# Altium integrated library CCM4201S_MAIN_Board_V1-PIJIAKUN_20260819.IntLib: 32 symbols
Pins are listed as number, name and electrical type; pins without a type are passive.

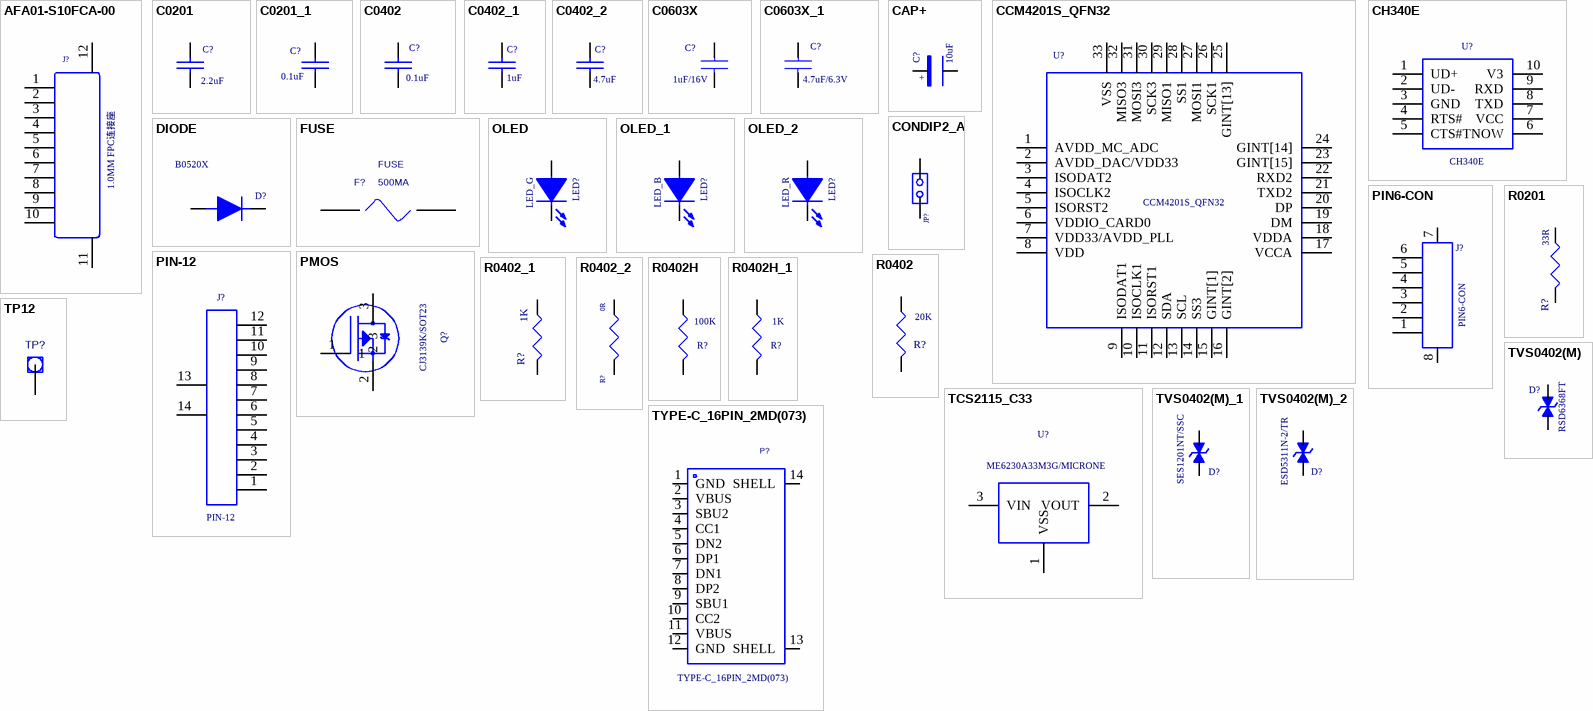
[diagram p0: symbols AFA01-S10FCA-00 to TYPE-C_16PIN_2MD(073)]

## AFA01-S10FCA-00
designator J?  Contributor: 1.0MM FPC连接座  (hidden comment: AFA01-S10FCA-00)
BOM_Manufacturer: JUSHUO; PCB DECAL: FPC-SMD_10P-P1.0_FGS-XJ-H2.0; BOM_Supplier: LCSC; BOM_Supplier_Part: C262756; BOM_Manufacturer_Part: AFA01-S10FCA-00; BOM_JLCPCB_Part_Class: Extended Part; spicePre: F; spiceSymbolName: AFA01-S10FCA-00
footprint FPC-SMD_10P-P1.0_FGS-XJ-H2.0
pins: 1, 2, 3, 4, 5, 6, 7, 8, 9, 10, 11, 12

## C0201
designator C?, comment 2.2uF
CAP, 2.2uF, 10%, 10V, X5R, 0201; Manufacturer #1: 村田 muRata; PCB DECAL: 0402C
footprint 0402C
pins: 1, 2

## C0201_1
designator C?, comment 0.1uF
CAP, 0.1uF, 10%, 10V, X5R, 0201; Manufacturer #1: 村田 muRata; PCB DECAL: 0402C; Source_Path: D:\王君资料\客户资料\奥美佳\TDC5502\SCHEMATIC\改过原理图\TDC5502 1210B56101MN32SSD32FTD020EARIGBT.DSN
footprint 0402C
pins: 1, 2

## C0402
designator C?, comment 0.1uF
CAP, 0.1uF, 10%, 10V, X5R, 0402; Manufacturer #1: 村田 muRata; PCB DECAL: 0402C
footprint 0402C
pins: 1, 2

## C0402_1
designator C?, comment 1uF
CAP, 1UF, 10%, 10V, X5R, 0402; Manufacturer #1: 村田 muRata; PCB DECAL: 0402C
footprint 0402C
pins: 1, 2

## C0402_2
designator C?, comment 4.7uF
CAP, 1UF, 10%, 10V, X5R, 0402; Manufacturer #1: 村田 muRata; PCB DECAL: 0402C
footprint 0402C
pins: 1, 2

## C0603X
designator C?, comment 1uF/16V
CAP, 10UF, 20%, 10V, X5R, 0603; Manufacturer #1: 村田 muRata; Manufacturer: muRata (村田); PCB DECAL: 0402C; PCB_DECAL: C0805; Process: SMT; Geometry.Height: 1.45000mm
footprint 0402C
pins: 1, 2

## C0603X_1
designator C?, comment 4.7uF/6.3V
CAP, 10UF, 20%, 10V, X5R, 0603; Manufacturer #1: 村田 muRata; Manufacturer: muRata (村田); PCB DECAL: 0402C; PCB_DECAL: C0805; Process: SMT; Geometry.Height: 1.45000mm
footprint 0402C
pins: 1, 2

## CAP+
designator C?, comment 10uF
CAP, 10uF, 10%, 16V  6.3*5.3mm SMD; PCB DECAL: L0805; Geometry.Height: 1.19990mm
footprint L0805
pins: 1, 2
text: +

## CCM4201S_QFN32
designator U?
PCB DECAL: QFN32_4X4_0.4
footprint QFN32_4X4_0.4
pins: 1 AVDD_MC_ADC, 2 AVDD_DAC/VDD33, 3 ISODAT2, 4 ISOCLK2, 5 ISORST2, 6 VDDIO_CARD0, 7 VDD33/AVDD_PLL, 8 VDD, 9 ISODAT1, 10 ISOCLK1, 11 ISORST1, 12 SDA, 13 SCL, 14 SS3, 15 GINT[1], 16 GINT[2], 17 VCCA, 18 VDDA, 19 DM, 20 DP, 21 TXD2, 22 RXD2, 23 GINT[15], 24 GINT[14], 25 GINT[13], 26 SCK1, 27 MOSI1, 28 SS1, 29 MISO1, 30 SCK3, 31 MOSI3, 32 MISO3, 33 VSS

## CH340E
designator U?
PCB DECAL: MSOP-10; Geometry.Height: 1.09mm
footprint MSOP-10
pins: 1 UD+, 2 UD-, 3 GND, 4 RTS#, 5 CTS#, 6 TNOW, 7 VCC, 8 TXD, 9 RXD, 10 V3

## CONDIP2_A
designator JP?  (value not drawn)
Rechargeable Battery; PCB DECAL: PAIZHEN-1.27-2P; Value: 4.2V/0.5A
footprint PAIZHEN-1.27-2P
pins: 1, 2

## DIODE
designator D?, comment B0520X
Value: B0520; PCB DECAL: SOD523
footprint SOD523
pins: A, K

## FUSE
designator F?  value 500MA
Source_Path: C:\PROGRAM FILES\CADENCE\SPB_15.7\TOOLS\CAPTURE\LIBRARY\OLDLIBS\DEVICE.OLB; PCB DECAL: 0603-PUSE
footprint 0603-PUSE
pins: 1, 2

## OLED
designator LED?, comment LED_G
Geometry.Height: 1.100mm; PCB DECAL: LED_G
footprint LED_G
pins: 1, 2

## OLED_1
designator LED?, comment LED_B
PCB DECAL: LED_G; Geometry.Height: 1.100mm
footprint LED_G
pins: 1, 2

## OLED_2
designator LED?, comment LED_R
PCB DECAL: LED_G; Geometry.Height: 1.100mm
footprint LED_G
pins: 1, 2

## PIN6-CON
designator J?
PCB DECAL: XH6PIN_1.0MM
footprint XH6PIN_1.0MM
pins: 1, 2, 3, 4, 5, 6, 7, 8

## PIN-12
designator J?
PCB DECAL: PIN-12
footprint PIN-12
pins: 1, 2, 3, 4, 5, 6, 7, 8, 9, 10, 11, 12, 13, 14

## PMOS
designator Q?, comment CJ3139K/SOT23
SOT23; Manufacturer #1: 长电科技; PCB DECAL: SOT23
footprint SOT23
pins: 1, 2, 3

## R0201
designator R?, comment 33R
PCB DECAL: 0402R; Source_Path: C:\PROGRAM FILES\ORCAD\CAPTURE\LIBRARY\DISCRETE.OLB
footprint 0402R
pins: 1, 2

## R0402
designator R?, comment 20K
RES,20K, 5%, 1/10W, 0201, SMD; Manufacturer #1: Yageo; PCB DECAL: 0402R; Part_Name: RES 0201
footprint 0402R
pins: 1, 2

## R0402_1
designator R?, comment 1K
RES,20K, 5%, 1/10W, 0201, SMD; Manufacturer #1: Yageo; PCB DECAL: 0402R; Part_Name: RES 0201
footprint 0402R
pins: 1, 2

## R0402_2
designator R?, comment value 0R  (hidden comment: R0402)
RES,330R, 5%, 1/10W, 0201, SMD; Manufacturer #1: Yageo; PCB DECAL: 0402R; Part_Name: RES 0201
footprint 0402R
pins: 1, 2

## R0402H
designator R?, comment 100K
RES 0603  4.7KΩ±1%  1/8W; PCB_DECAL: R0603; Specification: spec; Process: SMT; PCB DECAL: 0402R
footprint 0402R
pins: 1, 2

## R0402H_1
designator R?, comment 1K
RES 0603  4.7KΩ±1%  1/8W; PCB_DECAL: R0603; Specification: spec; Process: SMT; PCB DECAL: 0402R
footprint 0402R
pins: 1, 2

## TCS2115_C33
designator U?, comment ME6230A33M3G/MICRONE
3.3V  SOT23-3; Manufacturer #1: Torch_chip; PCB DECAL: SOT23-3
footprint SOT23-3
pins: 1 VSS, 2 VOUT, 3 VIN

## TP12
designator TP?  (value not drawn)
测试点，不需要贴片; PCB DECAL: TPAA
footprint TPAA
pins: 1

## TVS0402(M)
designator D?, comment RSD6368FT
TRANSIENT VOLTAGE SUPPRESSOR, VBR=220V; Part Number: 1.5KE220; Manufacturer #1: MOTOROLA; PCB DECAL: TVS0402(M); Source_Path: D:\工作资料\指纹锁\电子烟\TF30X原理图\TF30X-GSL6165S-V00.DSN; Value: RSFK9D3NT; Geometry.Height: 1.10007mm
footprint TVS0402(M)
pins: 1, 2

## TVS0402(M)_1
designator D?, comment SES1201NT/SSC
TVS/12V; Part Number: 1.5KE220; Manufacturer #1: MOTOROLA; PCB DECAL: TVS0402(M); Source_Path: D:\工作资料\指纹锁\电子烟\TF30X原理图\TF30X-GSL6165S-V00.DSN
footprint TVS0402(M)
pins: 1, 2

## TVS0402(M)_2
designator D?, comment ESD5311N-2/TR
TVS/5V; Part Number: 1.5KE220; Manufacturer #1: MOTOROLA; PCB DECAL: TVS0402(M); Source_Path: D:\工作资料\指纹锁\电子烟\TF30X原理图\TF30X-GSL6165S-V00.DSN
footprint TVS0402(M)
pins: 1, 2

## TYPE-C_16PIN_2MD(073)
designator P?
Symbol: TYPE-C 16PIN 2MD(073); Add_into_BOM: yes; Connector_Type: Type-C; Number_of_Contacts: 16; Number_of_Ports: 1; Current_Rating___Power_(Max): 5A; PCB DECAL: USB-C-SMD_TYPE-C-6PIN-2MD-073; Name: =Manufacturer Part; Device: TYPE-C 16PIN 2MD(073); Supplier_Part: C2765186; Manufacturer_Part: TYPE-C 16PIN 2MD(073); Supplier_Footprint: SMD; JLCPCB_Part_Class: Extended Part; Datasheet: https://atta.szlcsc.com/upload/public/pdf/source/20211123/39B17C16241EAC15C5E277BDA434118E.pdf; Supplier: LCSC; Convert_to_PCB: yes; Standard: -
footprint USB-C-SMD_TYPE-C-6PIN-2MD-073
pins: 1 GND, 2 VBUS, 3 SBU2, 4 CC1, 5 DN2, 6 DP1, 7 DN1, 8 DP2, 9 SBU1, 10 CC2, 11 VBUS, 12 GND, 13 SHELL, 14 SHELL